# Altium integrated library TI Data Converters Digital to Analog Converter.IntLib: 1533 symbols (part 45 of 99)
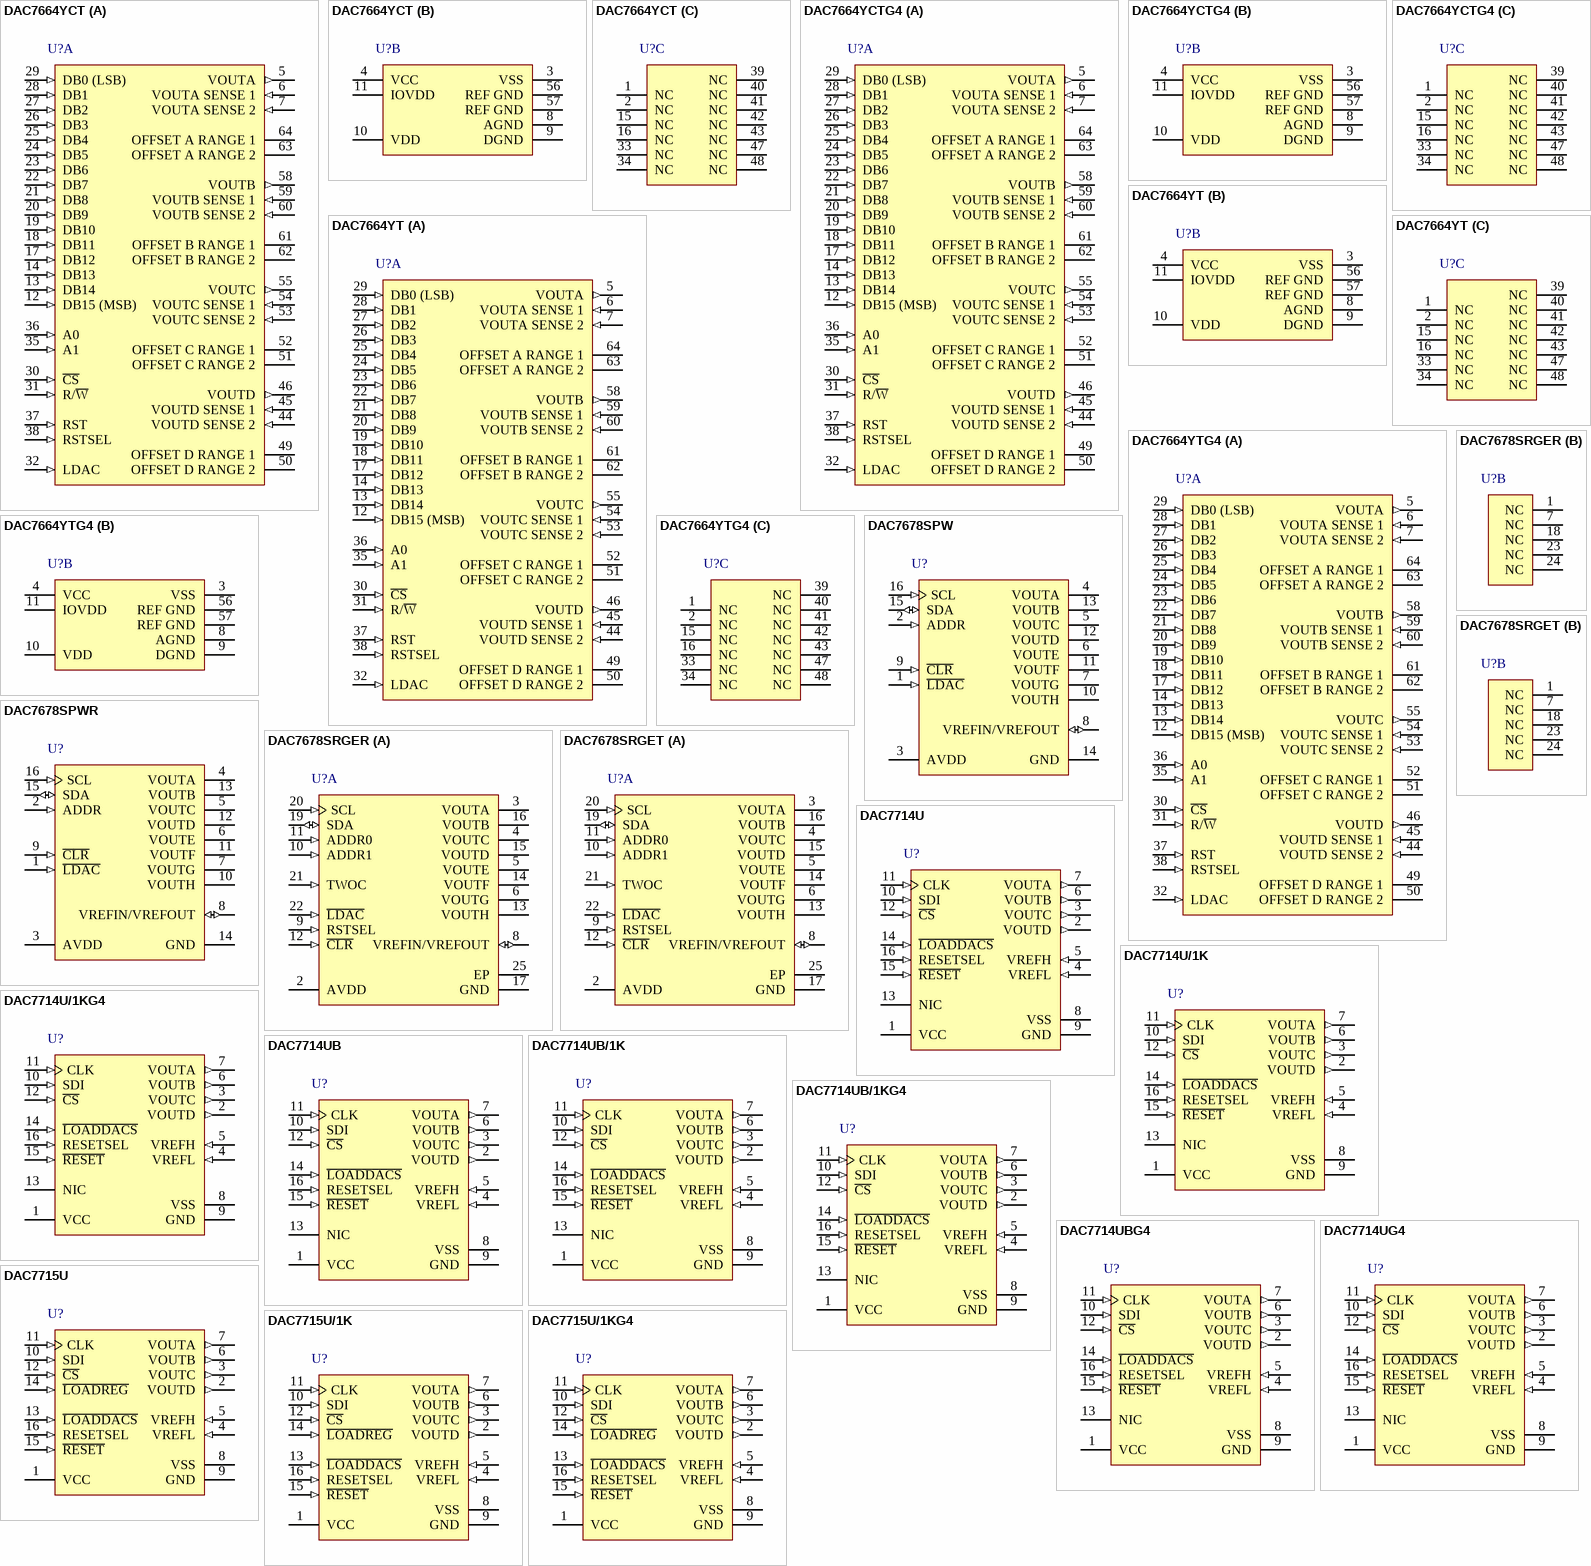
[diagram p117: symbols DAC7664YCT to DAC7715U/1KG4]

## DAC7664YCT
designator U?
Digital to Analog Converter, Quad, 16-Bit, 12 us Settling Time, +/- 1 LSB DNL, -40 to 85 degC, 64-pin QFP (PM64), Green (RoHS & no Sb/Br); Manufacturer: Texas Instruments; PartNumber: DAC7664YCT; DAC Channels: 4; DNL(Max)(+/-LSB): 3; Interface: Parallel; Power Consumption(Typ)(mW): 18; Resolution(Bits): 16; Settling Time(us): 12; SubFamily: Precision DAC (=<10MSPS); DatasheetVersion: SBAS271; PackageVersion: 4040152/C, 11/1996; PackageReference: PM64; PackageDescription: 64-Pin Plastic Quad Flatpack, Body 10 x 10 mm, Pitch 0.5 mm; Supplier 1: Digi-Key; Supplier Part Number 1: 296-16928-2-ND; Supplier 2: Digi-Key; Supplier Part Number 2: 296-16928-1-ND; Supplier 3: Digi-Key; Supplier Part Number 3: 296-16928-6-ND; Supplier 4: Newark; Supplier Part Number 4: 01J0531; Supplier 5: Mouser; Supplier Part Number 5: 595-DAC7664YCT; Eco-Plan: Green (RoHS & no Sb/Br); INL(Max)(+/-LSB): 3; Mounting Technology: Surface Mount; Code_JEDEC: MS-026; ComponentLink1Description: Manufacturer URL; ComponentLink1URL: http://www.ti.com/; ComponentLink2Description: Datasheet; ComponentLink2URL: http://www.ti.com/general/docs/lit/getliterature.tsp?genericPartNumber=DAC7664&fileType=pdf; ComponentLink3Description: Package Specification; ComponentLink3URL: http://www.ti.com/lit/ml/mtqf008a/mtqf008a.pdf
footprint TI-PM64_N (QFP, 64-Leads, Body 10x10mm, Pitch 0.5mm, IPC Medium Density)
footprint TI-PM64_L (QFP, 64-Leads, Body 10x10mm, Pitch 0.5mm, IPC High Density)
footprint TI-PM64_M (QFP, 64-Leads, Body 10x10mm, Pitch 0.5mm, IPC Low Density)
part A pins: 5 VOUTA (out) "DAC A output voltage", 6 VOUTA SENSE 1 (in) "Connect to VOUTA for unipolar mode", 7 VOUTA SENSE 2 (in) "Connect to VOUTA for bipolar mode", 12 DB15 (MSB) (in) "Data bit 15 (MSB)", 13 DB14 (in) "Data bit 14", 14 DB13 (in) "Data bit 13", 17 DB12 (in) "Data bit 12", 18 DB11 (in) "Data bit 11", 19 DB10 (in) "Data bit 10", 20 DB9 (in) "Data bit 9", 21 DB8 (in) "Data bit 8", 22 DB7 (in) "Data bit 7", 23 DB6 (in) "Data bit 6", 24 DB5 (in) "Data bit 5", 25 DB4 (in) "Data bit 4", 26 DB3 (in) "Data bit 3", 27 DB2 (in) "Data bit 2", 28 DB1 (in) "Data bit 1", 29 DB0 (LSB) (in) "Data bit 0", 30 ~{CS} (in) "Chip select, active low", 31 R/~{W} (in) "Enabled by C\S\; controls the data read and data write.", 32 LDAC (in) "DAC register load control, rising edge triggered.", 35 A1 (in) "Enabled by CS; in combination with A0, selects the individual DAC input registers.", 36 A0 (in) "Enabled by CS; in combination with A1, selects the individual DAC input registers.", 37 RST (in) "Reset, rising edge triggered. Depending on the state of RSTSEL, the DAC registers are set to either mid-scale or zero.", 38 RSTSEL (in) "Reset select. Determines the action of RST. If high, an RST command sets the DAC registers to mid-scale (8000h). If low, an RST command sets the DAC registers to zero (0000h).", 44 VOUTD SENSE 2 (in) "Connect to VOUTD for bipolar mode", 45 VOUTD SENSE 1 (in) "Connect to VOUTD for unipolar mode", 46 VOUTD (out) "DAC D output", 49 OFFSET D RANGE 1 "Connect to Offset D Range 2 for unipolar mode", 50 OFFSET D RANGE 2 "Connect to Offset D Range 1 for unipolar mode", 51 OFFSET C RANGE 2 "Connect to Offset C Range 1 for unipolar mode", 52 OFFSET C RANGE 1 "Connect to Offset C Range 2 for unipolar mode", 53 VOUTC SENSE 2 (in) "Connect to VOUTC for bipolar mode", 54 VOUTC SENSE 1 (in) "Connect to VOUTC for unipolar mode", 55 VOUTC (out) "DAC C output", 58 VOUTB (out) "DAC B output", 59 VOUTB SENSE 1 (in) "Connect to VOUTB for unipolar mode", 60 VOUTB SENSE 2 (in) "Connect to VOUTB for bipolar mode", 61 OFFSET B RANGE 1 "Connect to Offset B Range 2 for unipolar mode", 62 OFFSET B RANGE 2 "Connect to Offset B Range 1 for unipolar mode", 63 OFFSET A RANGE 2 "Connect to Offset A Range 1 for unipolar mode", 64 OFFSET A RANGE 1 "Connect to Offset A Range 2 for unipolar mode"
part B pins: 3 VSS (power) "Analog -5V power supply or 0V single supply", 4 VCC (power) "Analog +5V power supply", 8 AGND (power) "Analog ground", 9 DGND (power) "Digital ground", 10 VDD (power) "Digital +5V power supply", 11 IOVDD (power) "Interface power supply", 56 REF GND (power) "Reference ground", 57 REF GND (power) "Reference ground"
part C pins: 1 NC "No Connection", 2 NC "No Connection", 15 NC "No connection", 16 NC "No connection", 33 NC "No connection", 34 NC "No connection", 39 NC "No connection", 40 NC "No connection", 41 NC "No connection", 42 NC "No connection", 43 NC "No connection", 47 NC "No connection", 48 NC "No connection"

## DAC7664YCTG4
designator U?
Digital to Analog Converter, Quad, 16-Bit, 12 us Settling Time, +/- 1 LSB DNL, -40 to 85 degC, 64-pin QFP (PM64), Green (RoHS & no Sb/Br); Manufacturer: Texas Instruments; PartNumber: DAC7664YCTG4; DAC Channels: 4; DNL(Max)(+/-LSB): 2; INL(Max)(+/-LSB): 3; Interface: Parallel; Power Consumption(Typ)(mW): 18; Resolution(Bits): 16; Settling Time(us): 12; SubFamily: Precision DAC (=<10MSPS); DatasheetVersion: SBAS271; PackageVersion: 4040152/C, 11/1996; PackageReference: PM64; PackageDescription: 64-Pin Plastic Quad Flatpack, Body 10 x 10 mm, Pitch 0.5 mm; Supplier 1: Digi-Key; Supplier Part Number 1: DAC7664YCTG4-ND; Supplier 2: Newark; Supplier Part Number 2: 14M1946; Supplier 3: Mouser; Supplier Part Number 3: 595-DAC7664YCTG4; Eco-Plan: Green (RoHS & no Sb/Br); Mounting Technology: Surface Mount; Code_JEDEC: MS-026; ComponentLink1Description: Manufacturer URL; ComponentLink1URL: http://www.ti.com/; ComponentLink2Description: Datasheet; ComponentLink2URL: http://www.ti.com/general/docs/lit/getliterature.tsp?genericPartNumber=DAC7664&fileType=pdf; ComponentLink3Description: Package Specification; ComponentLink3URL: http://www.ti.com/lit/ml/mtqf008a/mtqf008a.pdf
footprint TI-PM64_N (QFP, 64-Leads, Body 10x10mm, Pitch 0.5mm, IPC Medium Density)
footprint TI-PM64_L (QFP, 64-Leads, Body 10x10mm, Pitch 0.5mm, IPC High Density)
footprint TI-PM64_M (QFP, 64-Leads, Body 10x10mm, Pitch 0.5mm, IPC Low Density)
part A pins: 5 VOUTA (out) "DAC A output voltage", 6 VOUTA SENSE 1 (in) "Connect to VOUTA for unipolar mode", 7 VOUTA SENSE 2 (in) "Connect to VOUTA for bipolar mode", 12 DB15 (MSB) (in) "Data bit 15 (MSB)", 13 DB14 (in) "Data bit 14", 14 DB13 (in) "Data bit 13", 17 DB12 (in) "Data bit 12", 18 DB11 (in) "Data bit 11", 19 DB10 (in) "Data bit 10", 20 DB9 (in) "Data bit 9", 21 DB8 (in) "Data bit 8", 22 DB7 (in) "Data bit 7", 23 DB6 (in) "Data bit 6", 24 DB5 (in) "Data bit 5", 25 DB4 (in) "Data bit 4", 26 DB3 (in) "Data bit 3", 27 DB2 (in) "Data bit 2", 28 DB1 (in) "Data bit 1", 29 DB0 (LSB) (in) "Data bit 0", 30 ~{CS} (in) "Chip select, active low", 31 R/~{W} (in) "Enabled by C\S\; controls the data read and data write.", 32 LDAC (in) "DAC register load control, rising edge triggered.", 35 A1 (in) "Enabled by CS; in combination with A0, selects the individual DAC input registers.", 36 A0 (in) "Enabled by CS; in combination with A1, selects the individual DAC input registers.", 37 RST (in) "Reset, rising edge triggered. Depending on the state of RSTSEL, the DAC registers are set to either mid-scale or zero.", 38 RSTSEL (in) "Reset select. Determines the action of RST. If high, an RST command sets the DAC registers to mid-scale (8000h). If low, an RST command sets the DAC registers to zero (0000h).", 44 VOUTD SENSE 2 (in) "Connect to VOUTD for bipolar mode", 45 VOUTD SENSE 1 (in) "Connect to VOUTD for unipolar mode", 46 VOUTD (out) "DAC D output", 49 OFFSET D RANGE 1 "Connect to Offset D Range 2 for unipolar mode", 50 OFFSET D RANGE 2 "Connect to Offset D Range 1 for unipolar mode", 51 OFFSET C RANGE 2 "Connect to Offset C Range 1 for unipolar mode", 52 OFFSET C RANGE 1 "Connect to Offset C Range 2 for unipolar mode", 53 VOUTC SENSE 2 (in) "Connect to VOUTC for bipolar mode", 54 VOUTC SENSE 1 (in) "Connect to VOUTC for unipolar mode", 55 VOUTC (out) "DAC C output", 58 VOUTB (out) "DAC B output", 59 VOUTB SENSE 1 (in) "Connect to VOUTB for unipolar mode", 60 VOUTB SENSE 2 (in) "Connect to VOUTB for bipolar mode", 61 OFFSET B RANGE 1 "Connect to Offset B Range 2 for unipolar mode", 62 OFFSET B RANGE 2 "Connect to Offset B Range 1 for unipolar mode", 63 OFFSET A RANGE 2 "Connect to Offset A Range 1 for unipolar mode", 64 OFFSET A RANGE 1 "Connect to Offset A Range 2 for unipolar mode"
part B pins: 3 VSS (power) "Analog -5V power supply or 0V single supply", 4 VCC (power) "Analog +5V power supply", 8 AGND (power) "Analog ground", 9 DGND (power) "Digital ground", 10 VDD (power) "Digital +5V power supply", 11 IOVDD (power) "Interface power supply", 56 REF GND (power) "Reference ground", 57 REF GND (power) "Reference ground"
part C pins: 1 NC "No Connection", 2 NC "No Connection", 15 NC "No connection", 16 NC "No connection", 33 NC "No connection", 34 NC "No connection", 39 NC "No connection", 40 NC "No connection", 41 NC "No connection", 42 NC "No connection", 43 NC "No connection", 47 NC "No connection", 48 NC "No connection"

## DAC7664YT
designator U?
Digital to Analog Converter, Quad, 16-Bit, 12 us Settling Time, +/- 1 LSB DNL, -40 to 85 degC, 64-pin QFP (PM64), Green (RoHS & no Sb/Br); Manufacturer: Texas Instruments; PartNumber: DAC7664YT; DAC Channels: 4; DNL(Max)(+/-LSB): 3; Interface: Parallel; Power Consumption(Typ)(mW): 18; Resolution(Bits): 16; Settling Time(us): 12; SubFamily: Precision DAC (=<10MSPS); DatasheetVersion: SBAS271; PackageVersion: 4040152/C, 11/1996; PackageReference: PM64; PackageDescription: 64-Pin Plastic Quad Flatpack, Body 10 x 10 mm, Pitch 0.5 mm; Supplier 1: Digi-Key; Supplier Part Number 1: DAC7664YT-ND; Supplier 2: Mouser; Supplier Part Number 2: 595-DAC7664YT; Eco-Plan: Green (RoHS & no Sb/Br); INL(Max)(+/-LSB): 4; Mounting Technology: Surface Mount; Code_JEDEC: MS-026; ComponentLink1Description: Manufacturer URL; ComponentLink1URL: http://www.ti.com/; ComponentLink2Description: Datasheet; ComponentLink2URL: http://www.ti.com/general/docs/lit/getliterature.tsp?genericPartNumber=DAC7664&fileType=pdf; ComponentLink3Description: Package Specification; ComponentLink3URL: http://www.ti.com/lit/ml/mtqf008a/mtqf008a.pdf
footprint TI-PM64_N (QFP, 64-Leads, Body 10x10mm, Pitch 0.5mm, IPC Medium Density)
footprint TI-PM64_L (QFP, 64-Leads, Body 10x10mm, Pitch 0.5mm, IPC High Density)
footprint TI-PM64_M (QFP, 64-Leads, Body 10x10mm, Pitch 0.5mm, IPC Low Density)
part A pins: 5 VOUTA (out) "DAC A output voltage", 6 VOUTA SENSE 1 (in) "Connect to VOUTA for unipolar mode", 7 VOUTA SENSE 2 (in) "Connect to VOUTA for bipolar mode", 12 DB15 (MSB) (in) "Data bit 15 (MSB)", 13 DB14 (in) "Data bit 14", 14 DB13 (in) "Data bit 13", 17 DB12 (in) "Data bit 12", 18 DB11 (in) "Data bit 11", 19 DB10 (in) "Data bit 10", 20 DB9 (in) "Data bit 9", 21 DB8 (in) "Data bit 8", 22 DB7 (in) "Data bit 7", 23 DB6 (in) "Data bit 6", 24 DB5 (in) "Data bit 5", 25 DB4 (in) "Data bit 4", 26 DB3 (in) "Data bit 3", 27 DB2 (in) "Data bit 2", 28 DB1 (in) "Data bit 1", 29 DB0 (LSB) (in) "Data bit 0", 30 ~{CS} (in) "Chip select, active low", 31 R/~{W} (in) "Enabled by C\S\; controls the data read and data write.", 32 LDAC (in) "DAC register load control, rising edge triggered.", 35 A1 (in) "Enabled by CS; in combination with A0, selects the individual DAC input registers.", 36 A0 (in) "Enabled by CS; in combination with A1, selects the individual DAC input registers.", 37 RST (in) "Reset, rising edge triggered. Depending on the state of RSTSEL, the DAC registers are set to either mid-scale or zero.", 38 RSTSEL (in) "Reset select. Determines the action of RST. If high, an RST command sets the DAC registers to mid-scale (8000h). If low, an RST command sets the DAC registers to zero (0000h).", 44 VOUTD SENSE 2 (in) "Connect to VOUTD for bipolar mode", 45 VOUTD SENSE 1 (in) "Connect to VOUTD for unipolar mode", 46 VOUTD (out) "DAC D output", 49 OFFSET D RANGE 1 "Connect to Offset D Range 2 for unipolar mode", 50 OFFSET D RANGE 2 "Connect to Offset D Range 1 for unipolar mode", 51 OFFSET C RANGE 2 "Connect to Offset C Range 1 for unipolar mode", 52 OFFSET C RANGE 1 "Connect to Offset C Range 2 for unipolar mode", 53 VOUTC SENSE 2 (in) "Connect to VOUTC for bipolar mode", 54 VOUTC SENSE 1 (in) "Connect to VOUTC for unipolar mode", 55 VOUTC (out) "DAC C output", 58 VOUTB (out) "DAC B output", 59 VOUTB SENSE 1 (in) "Connect to VOUTB for unipolar mode", 60 VOUTB SENSE 2 (in) "Connect to VOUTB for bipolar mode", 61 OFFSET B RANGE 1 "Connect to Offset B Range 2 for unipolar mode", 62 OFFSET B RANGE 2 "Connect to Offset B Range 1 for unipolar mode", 63 OFFSET A RANGE 2 "Connect to Offset A Range 1 for unipolar mode", 64 OFFSET A RANGE 1 "Connect to Offset A Range 2 for unipolar mode"
part B pins: 3 VSS (power) "Analog -5V power supply or 0V single supply", 4 VCC (power) "Analog +5V power supply", 8 AGND (power) "Analog ground", 9 DGND (power) "Digital ground", 10 VDD (power) "Digital +5V power supply", 11 IOVDD (power) "Interface power supply", 56 REF GND (power) "Reference ground", 57 REF GND (power) "Reference ground"
part C pins: 1 NC "No Connection", 2 NC "No Connection", 15 NC "No connection", 16 NC "No connection", 33 NC "No connection", 34 NC "No connection", 39 NC "No connection", 40 NC "No connection", 41 NC "No connection", 42 NC "No connection", 43 NC "No connection", 47 NC "No connection", 48 NC "No connection"

## DAC7664YTG4
designator U?
Digital to Analog Converter, Quad, 16-Bit, 12 us Settling Time, +/- 1 LSB DNL, -40 to 85 degC, 64-pin QFP (PM64), Green (RoHS & no Sb/Br); Manufacturer: Texas Instruments; PartNumber: DAC7664YTG4; DAC Channels: 4; DNL(Max)(+/-LSB): 3; Interface: Parallel; Power Consumption(Typ)(mW): 18; Resolution(Bits): 16; Settling Time(us): 12; SubFamily: Precision DAC (=<10MSPS); DatasheetVersion: SBAS271; PackageVersion: 4040152/C, 11/1996; PackageReference: PM64; PackageDescription: 64-Pin Plastic Quad Flatpack, Body 10 x 10 mm, Pitch 0.5 mm; Supplier 1: Digi-Key; Supplier Part Number 1: DAC7664YTG4-ND; Supplier 2: Mouser; Supplier Part Number 2: 595-DAC7664YTG4; Eco-Plan: Green (RoHS & no Sb/Br); INL(Max)(+/-LSB): 4; Mounting Technology: Surface Mount; Code_JEDEC: MS-026; ComponentLink1Description: Manufacturer URL; ComponentLink1URL: http://www.ti.com/; ComponentLink2Description: Datasheet; ComponentLink2URL: http://www.ti.com/general/docs/lit/getliterature.tsp?genericPartNumber=DAC7664&fileType=pdf; ComponentLink3Description: Package Specification; ComponentLink3URL: http://www.ti.com/lit/ml/mtqf008a/mtqf008a.pdf
footprint TI-PM64_N (QFP, 64-Leads, Body 10x10mm, Pitch 0.5mm, IPC Medium Density)
footprint TI-PM64_L (QFP, 64-Leads, Body 10x10mm, Pitch 0.5mm, IPC High Density)
footprint TI-PM64_M (QFP, 64-Leads, Body 10x10mm, Pitch 0.5mm, IPC Low Density)
part A pins: 5 VOUTA (out) "DAC A output voltage", 6 VOUTA SENSE 1 (in) "Connect to VOUTA for unipolar mode", 7 VOUTA SENSE 2 (in) "Connect to VOUTA for bipolar mode", 12 DB15 (MSB) (in) "Data bit 15 (MSB)", 13 DB14 (in) "Data bit 14", 14 DB13 (in) "Data bit 13", 17 DB12 (in) "Data bit 12", 18 DB11 (in) "Data bit 11", 19 DB10 (in) "Data bit 10", 20 DB9 (in) "Data bit 9", 21 DB8 (in) "Data bit 8", 22 DB7 (in) "Data bit 7", 23 DB6 (in) "Data bit 6", 24 DB5 (in) "Data bit 5", 25 DB4 (in) "Data bit 4", 26 DB3 (in) "Data bit 3", 27 DB2 (in) "Data bit 2", 28 DB1 (in) "Data bit 1", 29 DB0 (LSB) (in) "Data bit 0", 30 ~{CS} (in) "Chip select, active low", 31 R/~{W} (in) "Enabled by C\S\; controls the data read and data write.", 32 LDAC (in) "DAC register load control, rising edge triggered.", 35 A1 (in) "Enabled by CS; in combination with A0, selects the individual DAC input registers.", 36 A0 (in) "Enabled by CS; in combination with A1, selects the individual DAC input registers.", 37 RST (in) "Reset, rising edge triggered. Depending on the state of RSTSEL, the DAC registers are set to either mid-scale or zero.", 38 RSTSEL (in) "Reset select. Determines the action of RST. If high, an RST command sets the DAC registers to mid-scale (8000h). If low, an RST command sets the DAC registers to zero (0000h).", 44 VOUTD SENSE 2 (in) "Connect to VOUTD for bipolar mode", 45 VOUTD SENSE 1 (in) "Connect to VOUTD for unipolar mode", 46 VOUTD (out) "DAC D output", 49 OFFSET D RANGE 1 "Connect to Offset D Range 2 for unipolar mode", 50 OFFSET D RANGE 2 "Connect to Offset D Range 1 for unipolar mode", 51 OFFSET C RANGE 2 "Connect to Offset C Range 1 for unipolar mode", 52 OFFSET C RANGE 1 "Connect to Offset C Range 2 for unipolar mode", 53 VOUTC SENSE 2 (in) "Connect to VOUTC for bipolar mode", 54 VOUTC SENSE 1 (in) "Connect to VOUTC for unipolar mode", 55 VOUTC (out) "DAC C output", 58 VOUTB (out) "DAC B output", 59 VOUTB SENSE 1 (in) "Connect to VOUTB for unipolar mode", 60 VOUTB SENSE 2 (in) "Connect to VOUTB for bipolar mode", 61 OFFSET B RANGE 1 "Connect to Offset B Range 2 for unipolar mode", 62 OFFSET B RANGE 2 "Connect to Offset B Range 1 for unipolar mode", 63 OFFSET A RANGE 2 "Connect to Offset A Range 1 for unipolar mode", 64 OFFSET A RANGE 1 "Connect to Offset A Range 2 for unipolar mode"
part B pins: 3 VSS (power) "Analog -5V power supply or 0V single supply", 4 VCC (power) "Analog +5V power supply", 8 AGND (power) "Analog ground", 9 DGND (power) "Digital ground", 10 VDD (power) "Digital +5V power supply", 11 IOVDD (power) "Interface power supply", 56 REF GND (power) "Reference ground", 57 REF GND (power) "Reference ground"
part C pins: 1 NC "No Connection", 2 NC "No Connection", 15 NC "No connection", 16 NC "No connection", 33 NC "No connection", 34 NC "No connection", 39 NC "No connection", 40 NC "No connection", 41 NC "No connection", 42 NC "No connection", 43 NC "No connection", 47 NC "No connection", 48 NC "No connection"

## DAC7678SPW
designator U?
12-Bit, Octal Channel, Ultra-Low Glitch, Voltage Output, 2-Wire Interface DAC with 2.5 V Internal Reference, -40 to 125 degC, 16-pin SOP (PW16), Green (RoHS & no Sb/Br); Manufacturer: Texas Instruments; PartNumber: DAC7678SPW; DAC Channels: 8; DNL(Max)(+/-LSB): 0.25; INL(Max)(+/-LSB): 1; Interface: Serial I2C; Power Consumption(Typ)(mW): 3.67; Resolution(Bits): 12; Settling Time(us): 7; SubFamily: Precision DAC (=<10MSPS); DatasheetVersion: SBAS493B; PackageVersion: 4040064-4/G, 02/2011; PackageReference: PW16; PackageDescription: 16-Pin Plastic Small Outline, Body 5 x 4.4 mm, Pitch 0.65 mm; Supplier 1: Digi-Key; Supplier Part Number 1: 296-27742-5-ND; Supplier 2: Farnell; Supplier Part Number 2: 1855109; Supplier 3: Newark; Supplier Part Number 3: 23T0809; Supplier 4: Newark; Supplier Part Number 4: 01T0036; Supplier 5: Mouser; Supplier Part Number 5: 595-DAC7678SPW; Eco-Plan: Green (RoHS & no Sb/Br); Mounting Technology: Surface Mount; Code_JEDEC: MO-153; ComponentLink1Description: Manufacturer URL; ComponentLink1URL: http://www.ti.com/; ComponentLink2Description: Datasheet; ComponentLink2URL: http://www.ti.com/general/docs/lit/getliterature.tsp?genericPartNumber=DAC7678&fileType=pdf; ComponentLink3Description: Package Specification; ComponentLink3URL: http://www.ti.com/lit/ml/mpds361/mpds361.pdf
footprint TI-PW16_N (SOP, 16-Leads, Body 5x4.4mm, Pitch 0.65mm, IPC Medium Density)
footprint TI-PW16_L (SOP, 16-Leads, Body 5x4.4mm, Pitch 0.65mm, IPC High Density)
footprint TI-PW16_M (SOP, 16-Leads, Body 5x4.4mm, Pitch 0.65mm, IPC Low Density)
pins: 1 ~{LDAC} (in) "Load DACs.", 2 ADDR (in) "Three-state address input 0", 3 AVDD (power) "Power-supply input, 2.7V to 5.5V", 4 VOUTA (hiz) "Analog output voltage from DAC A", 5 VOUTC (hiz) "Analog output voltage from DAC C", 6 VOUTE (hiz) "Analog output voltage from DAC E", 7 VOUTG (hiz) "Analog output voltage from DAC G", 8 VREFIN/VREFOUT (io) "Positive reference input or reference output of 2.5V, if internal reference use", 9 ~{CLR} (in) "Asynchronous clear input", 10 VOUTH (hiz) "Analog output voltage from DAC H", 11 VOUTF (hiz) "Analog output voltage from DAC F", 12 VOUTD (hiz) "Analog output voltage from DAC D", 13 VOUTB (hiz) "Analog output voltage from DAC B", 14 GND (power) "Ground reference point for all circuitry on the device", 15 SDA (io) "Serial data input. Data are clocked into or out of the input register. This pin is a bidirectional, open- drain data line that should be connected to the supply voltage with an external pull-up resistor.", 16 SCL (in) "Serial clock input. Data can be transferred at rates up to 3.4MHz. Schmitt-trigger logic input."

## DAC7678SPWR
designator U?
12-Bit, Octal Channel, Ultra-Low Glitch, Voltage Output, 2-Wire Interface DAC with 2.5 V Internal Reference, -40 to 125 degC, 16-pin SOP (PW16), Green (RoHS & no Sb/Br); Manufacturer: Texas Instruments; PartNumber: DAC7678SPWR; DAC Channels: 8; DNL(Max)(+/-LSB): 0.25; INL(Max)(+/-LSB): 1; Interface: Serial I2C; Power Consumption(Typ)(mW): 3.67; Resolution(Bits): 12; Settling Time(us): 7; SubFamily: Precision DAC (=<10MSPS); DatasheetVersion: SBAS493B; PackageVersion: 4040064-4/G, 02/2011; PackageReference: PW16; PackageDescription: 16-Pin Plastic Small Outline, Body 5 x 4.4 mm, Pitch 0.65 mm; Supplier 1: Digi-Key; Supplier Part Number 1: DAC7678SPWR-ND; Supplier 2: Farnell; Supplier Part Number 2: 1854521; Supplier 3: Newark; Supplier Part Number 3: 01T0037; Supplier 4: Mouser; Supplier Part Number 4: 595-DAC7678SPWR; Eco-Plan: Green (RoHS & no Sb/Br); Mounting Technology: Surface Mount; Code_JEDEC: MO-153; ComponentLink1Description: Manufacturer URL; ComponentLink1URL: http://www.ti.com/; ComponentLink2Description: Datasheet; ComponentLink2URL: http://www.ti.com/general/docs/lit/getliterature.tsp?genericPartNumber=DAC7678&fileType=pdf; ComponentLink3Description: Package Specification; ComponentLink3URL: http://www.ti.com/lit/ml/mpds361/mpds361.pdf
footprint TI-PW16_N (SOP, 16-Leads, Body 5x4.4mm, Pitch 0.65mm, IPC Medium Density)
footprint TI-PW16_L (SOP, 16-Leads, Body 5x4.4mm, Pitch 0.65mm, IPC High Density)
footprint TI-PW16_M (SOP, 16-Leads, Body 5x4.4mm, Pitch 0.65mm, IPC Low Density)
pins: 1 ~{LDAC} (in) "Load DACs.", 2 ADDR (in) "Three-state address input 0", 3 AVDD (power) "Power-supply input, 2.7V to 5.5V", 4 VOUTA (hiz) "Analog output voltage from DAC A", 5 VOUTC (hiz) "Analog output voltage from DAC C", 6 VOUTE (hiz) "Analog output voltage from DAC E", 7 VOUTG (hiz) "Analog output voltage from DAC G", 8 VREFIN/VREFOUT (io) "Positive reference input or reference output of 2.5V, if internal reference use", 9 ~{CLR} (in) "Asynchronous clear input", 10 VOUTH (hiz) "Analog output voltage from DAC H", 11 VOUTF (hiz) "Analog output voltage from DAC F", 12 VOUTD (hiz) "Analog output voltage from DAC D", 13 VOUTB (hiz) "Analog output voltage from DAC B", 14 GND (power) "Ground reference point for all circuitry on the device", 15 SDA (io) "Serial data input. Data are clocked into or out of the input register. This pin is a bidirectional, open- drain data line that should be connected to the supply voltage with an external pull-up resistor.", 16 SCL (in) "Serial clock input. Data can be transferred at rates up to 3.4MHz. Schmitt-trigger logic input."

## DAC7678SRGER
designator U?
12-Bit, Octal Channel, Ultra-Low Glitch, Voltage Output, 2-Wire Interface DAC with 2.5 V Internal Reference, -40 to 125 degC, 24-pin QFN (RGE24), Green (RoHS & no Sb/Br); Manufacturer: Texas Instruments; PartNumber: DAC7678SRGER; DAC Channels: 8; DNL(Max)(+/-LSB): 0.25; INL(Max)(+/-LSB): 1; Interface: Serial I2C; Power Consumption(Typ)(mW): 3.67; Resolution(Bits): 12; Settling Time(us): 7; SubFamily: Precision DAC (=<10MSPS); DatasheetVersion: SBAS493B; PackageVersion: 4204104/G, 07/2011; PackageReference: RGE24-2700X2700TP; PackageDescription: 24-Pin Plastic Flat Pack, Body 4 x 4 mm, Pitch 0.5 mm; Supplier 1: Digi-Key; Supplier Part Number 1: DAC7678SRGER-ND; Supplier 2: Mouser; Supplier Part Number 2: 595-DAC7678SRGER; Eco-Plan: Green (RoHS & no Sb/Br); Mounting Technology: Surface Mount; Code_JEDEC: MO-220; ComponentLink1Description: Manufacturer URL; ComponentLink1URL: http://www.ti.com/; ComponentLink2Description: Datasheet; ComponentLink2URL: http://www.ti.com/general/docs/lit/getliterature.tsp?genericPartNumber=DAC7678&fileType=pdf; ComponentLink3Description: Package Specification; ComponentLink3URL: http://www.ti.com/litv/pdf/mpqf124f
footprint TI-RGE24-2700X2700TP_V (QFN, 24-Leads, Body 4x4mm, Pitch 0.5mm, Thermal Pad 2.7x2.7mm)
part A pins: 2 AVDD (power) "Power-supply input, 2.7V to 5.5V", 3 VOUTA (hiz) "Analog output voltage from DAC A", 4 VOUTC (hiz) "Analog output voltage from DAC C", 5 VOUTE (hiz) "Analog output voltage from DAC E", 6 VOUTG (hiz) "Analog output voltage from DAC G", 8 VREFIN/VREFOUT (io) "Positive reference input or reference output of 2.5V, if internal reference used.", 9 RSTSEL (in) "Reset select pin. RSTSEL high resets device to mid-scale; RSTSEL low resets device to zero-scale.", 10 ADDR1 (in) "Three-state address input 1", 11 ADDR0 (in) "Three-state address input 0", 12 ~{CLR} (in) "Asynchronous clear input", 13 VOUTH (hiz) "Analog output voltage from DAC H", 14 VOUTF (hiz) "Analog output voltage from DAC F", 15 VOUTD (hiz) "Analog output voltage from DAC D", 16 VOUTB (hiz) "Analog output voltage from DAC B", 17 GND (power) "Ground reference point for all circuitry on the device", 19 SDA (io) "Serial data input. Data are clocked into or out of the input register. This pin is a bidirectional, open-drain data line that should be connected to the supply voltage with an external pull-up resistor.", 20 SCL (in) "Serial clock input. Data can be transferred at rates up to 3.4MHz. Schmitt-trigger logic input.", 21 TWOC (in) "Twos complement select. If the TWOC pin is pulled high, the DAC registers use twos complement format; if TWOC is pulled low, the DAC registers use straight binary format.", 22 ~{LDAC} (in) "Load DACs.", 25 EP (power) "It is recommended to connect the thermal pad to GND for better thermal dissipation."
part B pins: 1 NC "Not internally connected.", 7 NC "Not internally connected.", 18 NC "Not internally connected.", 23 NC "Not internally connected.", 24 NC "Not internally connected."

## DAC7678SRGET
designator U?
12-Bit, Octal Channel, Ultra-Low Glitch, Voltage Output, 2-Wire Interface DAC with 2.5 V Internal Reference, -40 to 125 degC, 24-pin QFN (RGE24), Green (RoHS & no Sb/Br); Manufacturer: Texas Instruments; PartNumber: DAC7678SRGET; DAC Channels: 8; DNL(Max)(+/-LSB): 0.25; INL(Max)(+/-LSB): 1; Interface: Serial I2C; Power Consumption(Typ)(mW): 3.67; Resolution(Bits): 12; Settling Time(us): 7; SubFamily: Precision DAC (=<10MSPS); DatasheetVersion: SBAS493B; PackageVersion: 4204104/G, 07/2011; PackageReference: RGE24-2700X2700TP; PackageDescription: 24-Pin Plastic Flat Pack, Body 4 x 4 mm, Pitch 0.5 mm; Supplier 1: Digi-Key; Supplier Part Number 1: 296-27743-2-ND; Supplier 2: Digi-Key; Supplier Part Number 2: 296-27743-1-ND; Supplier 3: Digi-Key; Supplier Part Number 3: 296-27743-6-ND; Supplier 4: Farnell; Supplier Part Number 4: 1862573; Supplier 5: Newark; Supplier Part Number 5: 91R0761; Supplier 6: Mouser; Supplier Part Number 6: 595-DAC7678SRGET; Eco-Plan: Green (RoHS & no Sb/Br); Mounting Technology: Surface Mount; Code_JEDEC: MO-220; ComponentLink1Description: Manufacturer URL; ComponentLink1URL: http://www.ti.com/; ComponentLink2Description: Datasheet; ComponentLink2URL: http://www.ti.com/general/docs/lit/getliterature.tsp?genericPartNumber=DAC7678&fileType=pdf; ComponentLink3Description: Package Specification; ComponentLink3URL: http://www.ti.com/litv/pdf/mpqf124f
footprint TI-RGE24-2700X2700TP_V (QFN, 24-Leads, Body 4x4mm, Pitch 0.5mm, Thermal Pad 2.7x2.7mm)
part A pins: 2 AVDD (power) "Power-supply input, 2.7V to 5.5V", 3 VOUTA (hiz) "Analog output voltage from DAC A", 4 VOUTC (hiz) "Analog output voltage from DAC C", 5 VOUTE (hiz) "Analog output voltage from DAC E", 6 VOUTG (hiz) "Analog output voltage from DAC G", 8 VREFIN/VREFOUT (io) "Positive reference input or reference output of 2.5V, if internal reference used.", 9 RSTSEL (in) "Reset select pin. RSTSEL high resets device to mid-scale; RSTSEL low resets device to zero-scale.", 10 ADDR1 (in) "Three-state address input 1", 11 ADDR0 (in) "Three-state address input 0", 12 ~{CLR} (in) "Asynchronous clear input", 13 VOUTH (hiz) "Analog output voltage from DAC H", 14 VOUTF (hiz) "Analog output voltage from DAC F", 15 VOUTD (hiz) "Analog output voltage from DAC D", 16 VOUTB (hiz) "Analog output voltage from DAC B", 17 GND (power) "Ground reference point for all circuitry on the device", 19 SDA (io) "Serial data input. Data are clocked into or out of the input register. This pin is a bidirectional, open-drain data line that should be connected to the supply voltage with an external pull-up resistor.", 20 SCL (in) "Serial clock input. Data can be transferred at rates up to 3.4MHz. Schmitt-trigger logic input.", 21 TWOC (in) "Twos complement select. If the TWOC pin is pulled high, the DAC registers use twos complement format; if TWOC is pulled low, the DAC registers use straight binary format.", 22 ~{LDAC} (in) "Load DACs.", 25 EP (power) "It is recommended to connect the thermal pad to GND for better thermal dissipation."
part B pins: 1 NC "Not internally connected.", 7 NC "Not internally connected.", 18 NC "Not internally connected.", 23 NC "Not internally connected.", 24 NC "Not internally connected."

## DAC7714U
designator U?
Quad, Serial Input, 12-Bit, Voltage Output DAC, -40 to 85 degC, 16-pin SOIC (DW16), Green (RoHS & no Sb/Br); Manufacturer: Texas Instruments; PartNumber: DAC7714U; DAC Channels: 4; DNL(Max)(+/-LSB): 1; INL(Max)(+/-LSB): 2; Interface: Serial SPI; Power Consumption(Typ)(mW): 45; Resolution(Bits): 12; Settling Time(us): 8; SubFamily: Precision DAC (=<10MSPS); DatasheetVersion: SBAS119; PackageVersion: 4040000-2/G, 01/2011; PackageReference: DW16; PackageDescription: 16-Pin Plastic Small Outline, Body 10.30 x 7.50 mm, Pitch 1.27 mm; Supplier 1: Digi-Key; Supplier Part Number 1: DAC7714U-ND; Supplier 2: Farnell; Supplier Part Number 2: 4808769; Supplier 3: Newark; Supplier Part Number 3: 35C1647; Supplier 4: Mouser; Supplier Part Number 4: 595-DAC7714U; Eco-Plan: Green (RoHS & no Sb/Br); Mounting Technology: Surface Mount; Code_JEDEC: MS-013; ComponentLink1Description: Manufacturer URL; ComponentLink1URL: http://www.ti.com/; ComponentLink2Description: Datasheet; ComponentLink2URL: http://www.ti.com/general/docs/lit/getliterature.tsp?genericPartNumber=DAC7714&fileType=pdf; ComponentLink3Description: Package Specification; ComponentLink3URL: http://www.ti.com/litv/pdf/msoi003g
footprint TI-DW16_N (SOIC, 16-Leads, Body 10.3x7.5mm, Pitch 1.27mm, IPC Medium Density)
footprint TI-DW16_L (SOIC, 16-Leads, Body 10.3x7.5mm, Pitch 1.27mm, IPC High Density)
footprint TI-DW16_M (SOIC, 16-Leads, Body 10.3x7.5mm, Pitch 1.27mm, IPC Low Density)
pins: 1 VCC (power) "Positive Analog Supply Voltage, +15V nominal.", 2 VOUTD (out) "DAC D Voltage Output", 3 VOUTC (out) "DAC C Voltage Output", 4 VREFL (in) "Reference Input Voltage Low. Sets minimum output voltage for all DACs.", 5 VREFH (in) "Reference Input Voltage High. Sets maximum output voltage for all DACs.", 6 VOUTB (out) "DAC B Voltage Output", 7 VOUTA (out) "DAC A Voltage Output", 8 VSS (power) "Negative Analog Supply Voltage, 0V or -15V nominal.", 9 GND (power) "Ground", 10 SDI (in) "Serial Data Input", 11 CLK (in) "Serial Data Clock", 12 ~{CS} (in) "Chip Select Input", 13 NIC "Not Internally Connected", 14 ~{LOADDACS} (in) "The selected DAC register becomes transparent when L\O\A\D\D\A\C\S\ is LOW. It is in the latched state when L\O\A\D\D\A\C\S\ is HIGH.", 15 ~{RESET} (in) "Asynchronous Reset Input. Sets DAC and input registers to either zero-scale (000H) or mid-scale (800H) when LOW. RESETSEL determines which code is active.", 16 RESETSEL (in) "When LOW, a LOW on R\E\S\E\T\ will cause the DAC and input registers to be set to code 000H. When RESETSEL is HIGH, a LOW on R\E\S\E\T\ will set the registers to code 800H."

## DAC7714U/1K
designator U?
Quad, Serial Input, 12-Bit, Voltage Output DAC, -40 to 85 degC, 16-pin SOIC (DW16), Green (RoHS & no Sb/Br); Manufacturer: Texas Instruments; PartNumber: DAC7714U/1K; DAC Channels: 4; DNL(Max)(+/-LSB): 1; INL(Max)(+/-LSB): 2; Interface: Serial SPI; Power Consumption(Typ)(mW): 45; Resolution(Bits): 12; Settling Time(us): 8; SubFamily: Precision DAC (=<10MSPS); DatasheetVersion: SBAS119; PackageVersion: 4040000-2/G, 01/2011; PackageReference: DW16; PackageDescription: 16-Pin Plastic Small Outline, Body 10.30 x 7.50 mm, Pitch 1.27 mm; Supplier 1: Digi-Key; Supplier Part Number 1: DAC7714U/1K-ND; Supplier 2: Mouser; Supplier Part Number 2: 595-DAC7714U/1K; Eco-Plan: Green (RoHS & no Sb/Br); Mounting Technology: Surface Mount; Code_JEDEC: MS-013; ComponentLink1Description: Manufacturer URL; ComponentLink1URL: http://www.ti.com/; ComponentLink2Description: Datasheet; ComponentLink2URL: http://www.ti.com/general/docs/lit/getliterature.tsp?genericPartNumber=DAC7714&fileType=pdf; ComponentLink3Description: Package Specification; ComponentLink3URL: http://www.ti.com/litv/pdf/msoi003g
footprint TI-DW16_N (SOIC, 16-Leads, Body 10.3x7.5mm, Pitch 1.27mm, IPC Medium Density)
footprint TI-DW16_L (SOIC, 16-Leads, Body 10.3x7.5mm, Pitch 1.27mm, IPC High Density)
footprint TI-DW16_M (SOIC, 16-Leads, Body 10.3x7.5mm, Pitch 1.27mm, IPC Low Density)
pins: 1 VCC (power) "Positive Analog Supply Voltage, +15V nominal.", 2 VOUTD (out) "DAC D Voltage Output", 3 VOUTC (out) "DAC C Voltage Output", 4 VREFL (in) "Reference Input Voltage Low. Sets minimum output voltage for all DACs.", 5 VREFH (in) "Reference Input Voltage High. Sets maximum output voltage for all DACs.", 6 VOUTB (out) "DAC B Voltage Output", 7 VOUTA (out) "DAC A Voltage Output", 8 VSS (power) "Negative Analog Supply Voltage, 0V or -15V nominal.", 9 GND (power) "Ground", 10 SDI (in) "Serial Data Input", 11 CLK (in) "Serial Data Clock", 12 ~{CS} (in) "Chip Select Input", 13 NIC "Not Internally Connected", 14 ~{LOADDACS} (in) "The selected DAC register becomes transparent when L\O\A\D\D\A\C\S\ is LOW. It is in the latched state when L\O\A\D\D\A\C\S\ is HIGH.", 15 ~{RESET} (in) "Asynchronous Reset Input. Sets DAC and input registers to either zero-scale (000H) or mid-scale (800H) when LOW. RESETSEL determines which code is active.", 16 RESETSEL (in) "When LOW, a LOW on R\E\S\E\T\ will cause the DAC and input registers to be set to code 000H. When RESETSEL is HIGH, a LOW on R\E\S\E\T\ will set the registers to code 800H."

## DAC7714U/1KG4
designator U?
Quad, Serial Input, 12-Bit, Voltage Output DAC, -40 to 85 degC, 16-pin SOIC (DW16), Green (RoHS & no Sb/Br); Manufacturer: Texas Instruments; PartNumber: DAC7714U/1KG4; DAC Channels: 4; DNL(Max)(+/-LSB): 1; INL(Max)(+/-LSB): 2; Interface: Serial SPI; Power Consumption(Typ)(mW): 45; Resolution(Bits): 12; Settling Time(us): 8; SubFamily: Precision DAC (=<10MSPS); DatasheetVersion: SBAS119; PackageVersion: 4040000-2/G, 01/2011; PackageReference: DW16; PackageDescription: 16-Pin Plastic Small Outline, Body 10.30 x 7.50 mm, Pitch 1.27 mm; Supplier 1: Digi-Key; Supplier Part Number 1: DAC7714U/1KG4-ND; Supplier 2: Mouser; Supplier Part Number 2: 595-DAC7714U/1KG4; Eco-Plan: Green (RoHS & no Sb/Br); Mounting Technology: Surface Mount; Code_JEDEC: MS-013; ComponentLink1Description: Manufacturer URL; ComponentLink1URL: http://www.ti.com/; ComponentLink2Description: Datasheet; ComponentLink2URL: http://www.ti.com/general/docs/lit/getliterature.tsp?genericPartNumber=DAC7714&fileType=pdf; ComponentLink3Description: Package Specification; ComponentLink3URL: http://www.ti.com/litv/pdf/msoi003g
footprint TI-DW16_N (SOIC, 16-Leads, Body 10.3x7.5mm, Pitch 1.27mm, IPC Medium Density)
footprint TI-DW16_L (SOIC, 16-Leads, Body 10.3x7.5mm, Pitch 1.27mm, IPC High Density)
footprint TI-DW16_M (SOIC, 16-Leads, Body 10.3x7.5mm, Pitch 1.27mm, IPC Low Density)
pins: 1 VCC (power) "Positive Analog Supply Voltage, +15V nominal.", 2 VOUTD (out) "DAC D Voltage Output", 3 VOUTC (out) "DAC C Voltage Output", 4 VREFL (in) "Reference Input Voltage Low. Sets minimum output voltage for all DACs.", 5 VREFH (in) "Reference Input Voltage High. Sets maximum output voltage for all DACs.", 6 VOUTB (out) "DAC B Voltage Output", 7 VOUTA (out) "DAC A Voltage Output", 8 VSS (power) "Negative Analog Supply Voltage, 0V or -15V nominal.", 9 GND (power) "Ground", 10 SDI (in) "Serial Data Input", 11 CLK (in) "Serial Data Clock", 12 ~{CS} (in) "Chip Select Input", 13 NIC "Not Internally Connected", 14 ~{LOADDACS} (in) "The selected DAC register becomes transparent when L\O\A\D\D\A\C\S\ is LOW. It is in the latched state when L\O\A\D\D\A\C\S\ is HIGH.", 15 ~{RESET} (in) "Asynchronous Reset Input. Sets DAC and input registers to either zero-scale (000H) or mid-scale (800H) when LOW. RESETSEL determines which code is active.", 16 RESETSEL (in) "When LOW, a LOW on R\E\S\E\T\ will cause the DAC and input registers to be set to code 000H. When RESETSEL is HIGH, a LOW on R\E\S\E\T\ will set the registers to code 800H."

## DAC7714UB
designator U?
Quad, Serial Input, 12-Bit, Voltage Output DAC, -40 to 85 degC, 16-pin SOIC (DW16), Green (RoHS & no Sb/Br); Manufacturer: Texas Instruments; PartNumber: DAC7714UB; DAC Channels: 4; DNL(Max)(+/-LSB): 1; Interface: Serial SPI; Power Consumption(Typ)(mW): 45; Resolution(Bits): 12; Settling Time(us): 8; SubFamily: Precision DAC (=<10MSPS); DatasheetVersion: SBAS119; PackageVersion: 4040000-2/G, 01/2011; PackageReference: DW16; PackageDescription: 16-Pin Plastic Small Outline, Body 10.30 x 7.50 mm, Pitch 1.27 mm; Supplier 1: Digi-Key; Supplier Part Number 1: DAC7714UB-ND; Supplier 2: Farnell; Supplier Part Number 2: 1391146; Supplier 3: Newark; Supplier Part Number 3: 04M4508; Supplier 4: Mouser; Supplier Part Number 4: 595-DAC7714UB; Eco-Plan: Green (RoHS & no Sb/Br); INL(Max)(+/-LSB): 1; Mounting Technology: Surface Mount; Code_JEDEC: MS-013; ComponentLink1Description: Manufacturer URL; ComponentLink1URL: http://www.ti.com/; ComponentLink2Description: Datasheet; ComponentLink2URL: http://www.ti.com/general/docs/lit/getliterature.tsp?genericPartNumber=DAC7714&fileType=pdf; ComponentLink3Description: Package Specification; ComponentLink3URL: http://www.ti.com/litv/pdf/msoi003g
footprint TI-DW16_N (SOIC, 16-Leads, Body 10.3x7.5mm, Pitch 1.27mm, IPC Medium Density)
footprint TI-DW16_L (SOIC, 16-Leads, Body 10.3x7.5mm, Pitch 1.27mm, IPC High Density)
footprint TI-DW16_M (SOIC, 16-Leads, Body 10.3x7.5mm, Pitch 1.27mm, IPC Low Density)
pins: 1 VCC (power) "Positive Analog Supply Voltage, +15V nominal.", 2 VOUTD (out) "DAC D Voltage Output", 3 VOUTC (out) "DAC C Voltage Output", 4 VREFL (in) "Reference Input Voltage Low. Sets minimum output voltage for all DACs.", 5 VREFH (in) "Reference Input Voltage High. Sets maximum output voltage for all DACs.", 6 VOUTB (out) "DAC B Voltage Output", 7 VOUTA (out) "DAC A Voltage Output", 8 VSS (power) "Negative Analog Supply Voltage, 0V or -15V nominal.", 9 GND (power) "Ground", 10 SDI (in) "Serial Data Input", 11 CLK (in) "Serial Data Clock", 12 ~{CS} (in) "Chip Select Input", 13 NIC "Not Internally Connected", 14 ~{LOADDACS} (in) "The selected DAC register becomes transparent when L\O\A\D\D\A\C\S\ is LOW. It is in the latched state when L\O\A\D\D\A\C\S\ is HIGH.", 15 ~{RESET} (in) "Asynchronous Reset Input. Sets DAC and input registers to either zero-scale (000H) or mid-scale (800H) when LOW. RESETSEL determines which code is active.", 16 RESETSEL (in) "When LOW, a LOW on R\E\S\E\T\ will cause the DAC and input registers to be set to code 000H. When RESETSEL is HIGH, a LOW on R\E\S\E\T\ will set the registers to code 800H."

## DAC7714UB/1K
designator U?
Quad, Serial Input, 12-Bit, Voltage Output DAC, -40 to 85 degC, 16-pin SOIC (DW16), Green (RoHS & no Sb/Br); Manufacturer: Texas Instruments; PartNumber: DAC7714UB/1K; DAC Channels: 4; DNL(Max)(+/-LSB): 1; Interface: Serial SPI; Power Consumption(Typ)(mW): 45; Resolution(Bits): 12; Settling Time(us): 8; SubFamily: Precision DAC (=<10MSPS); DatasheetVersion: SBAS119; PackageVersion: 4040000-2/G, 01/2011; PackageReference: DW16; PackageDescription: 16-Pin Plastic Small Outline, Body 10.30 x 7.50 mm, Pitch 1.27 mm; Supplier 1: Digi-Key; Supplier Part Number 1: DAC7714UB/1K-ND; Supplier 2: Mouser; Supplier Part Number 2: 595-DAC7714UB/1K; Eco-Plan: Green (RoHS & no Sb/Br); INL(Max)(+/-LSB): 1; Mounting Technology: Surface Mount; Code_JEDEC: MS-013; ComponentLink1Description: Manufacturer URL; ComponentLink1URL: http://www.ti.com/; ComponentLink2Description: Datasheet; ComponentLink2URL: http://www.ti.com/general/docs/lit/getliterature.tsp?genericPartNumber=DAC7714&fileType=pdf; ComponentLink3Description: Package Specification; ComponentLink3URL: http://www.ti.com/litv/pdf/msoi003g
footprint TI-DW16_N (SOIC, 16-Leads, Body 10.3x7.5mm, Pitch 1.27mm, IPC Medium Density)
footprint TI-DW16_L (SOIC, 16-Leads, Body 10.3x7.5mm, Pitch 1.27mm, IPC High Density)
footprint TI-DW16_M (SOIC, 16-Leads, Body 10.3x7.5mm, Pitch 1.27mm, IPC Low Density)
pins: 1 VCC (power) "Positive Analog Supply Voltage, +15V nominal.", 2 VOUTD (out) "DAC D Voltage Output", 3 VOUTC (out) "DAC C Voltage Output", 4 VREFL (in) "Reference Input Voltage Low. Sets minimum output voltage for all DACs.", 5 VREFH (in) "Reference Input Voltage High. Sets maximum output voltage for all DACs.", 6 VOUTB (out) "DAC B Voltage Output", 7 VOUTA (out) "DAC A Voltage Output", 8 VSS (power) "Negative Analog Supply Voltage, 0V or -15V nominal.", 9 GND (power) "Ground", 10 SDI (in) "Serial Data Input", 11 CLK (in) "Serial Data Clock", 12 ~{CS} (in) "Chip Select Input", 13 NIC "Not Internally Connected", 14 ~{LOADDACS} (in) "The selected DAC register becomes transparent when L\O\A\D\D\A\C\S\ is LOW. It is in the latched state when L\O\A\D\D\A\C\S\ is HIGH.", 15 ~{RESET} (in) "Asynchronous Reset Input. Sets DAC and input registers to either zero-scale (000H) or mid-scale (800H) when LOW. RESETSEL determines which code is active.", 16 RESETSEL (in) "When LOW, a LOW on R\E\S\E\T\ will cause the DAC and input registers to be set to code 000H. When RESETSEL is HIGH, a LOW on R\E\S\E\T\ will set the registers to code 800H."

## DAC7714UB/1KG4
designator U?
Quad, Serial Input, 12-Bit, Voltage Output DAC, -40 to 85 degC, 16-pin SOIC (DW16), Green (RoHS & no Sb/Br); Manufacturer: Texas Instruments; PartNumber: DAC7714UB/1KG4; DAC Channels: 4; DNL(Max)(+/-LSB): 1; Interface: Serial SPI; Power Consumption(Typ)(mW): 45; Resolution(Bits): 12; Settling Time(us): 8; SubFamily: Precision DAC (=<10MSPS); DatasheetVersion: SBAS119; PackageVersion: 4040000-2/G, 01/2011; PackageReference: DW16; PackageDescription: 16-Pin Plastic Small Outline, Body 10.30 x 7.50 mm, Pitch 1.27 mm; Supplier 1: Digi-Key; Supplier Part Number 1: DAC7714UB/1KG4-ND; Supplier 2: Mouser; Supplier Part Number 2: 595-DAC7714UB/1KG4; Eco-Plan: Green (RoHS & no Sb/Br); INL(Max)(+/-LSB): 1; Mounting Technology: Surface Mount; Code_JEDEC: MS-013; ComponentLink1Description: Manufacturer URL; ComponentLink1URL: http://www.ti.com/; ComponentLink2Description: Datasheet; ComponentLink2URL: http://www.ti.com/general/docs/lit/getliterature.tsp?genericPartNumber=DAC7714&fileType=pdf; ComponentLink3Description: Package Specification; ComponentLink3URL: http://www.ti.com/litv/pdf/msoi003g
footprint TI-DW16_N (SOIC, 16-Leads, Body 10.3x7.5mm, Pitch 1.27mm, IPC Medium Density)
footprint TI-DW16_L (SOIC, 16-Leads, Body 10.3x7.5mm, Pitch 1.27mm, IPC High Density)
footprint TI-DW16_M (SOIC, 16-Leads, Body 10.3x7.5mm, Pitch 1.27mm, IPC Low Density)
pins: 1 VCC (power) "Positive Analog Supply Voltage, +15V nominal.", 2 VOUTD (out) "DAC D Voltage Output", 3 VOUTC (out) "DAC C Voltage Output", 4 VREFL (in) "Reference Input Voltage Low. Sets minimum output voltage for all DACs.", 5 VREFH (in) "Reference Input Voltage High. Sets maximum output voltage for all DACs.", 6 VOUTB (out) "DAC B Voltage Output", 7 VOUTA (out) "DAC A Voltage Output", 8 VSS (power) "Negative Analog Supply Voltage, 0V or -15V nominal.", 9 GND (power) "Ground", 10 SDI (in) "Serial Data Input", 11 CLK (in) "Serial Data Clock", 12 ~{CS} (in) "Chip Select Input", 13 NIC "Not Internally Connected", 14 ~{LOADDACS} (in) "The selected DAC register becomes transparent when L\O\A\D\D\A\C\S\ is LOW. It is in the latched state when L\O\A\D\D\A\C\S\ is HIGH.", 15 ~{RESET} (in) "Asynchronous Reset Input. Sets DAC and input registers to either zero-scale (000H) or mid-scale (800H) when LOW. RESETSEL determines which code is active.", 16 RESETSEL (in) "When LOW, a LOW on R\E\S\E\T\ will cause the DAC and input registers to be set to code 000H. When RESETSEL is HIGH, a LOW on R\E\S\E\T\ will set the registers to code 800H."

## DAC7714UBG4
designator U?
Quad, Serial Input, 12-Bit, Voltage Output DAC, -40 to 85 degC, 16-pin SOIC (DW16), Green (RoHS & no Sb/Br); Manufacturer: Texas Instruments; PartNumber: DAC7714UBG4; DAC Channels: 4; DNL(Max)(+/-LSB): 1; Interface: Serial SPI; Power Consumption(Typ)(mW): 45; Resolution(Bits): 12; Settling Time(us): 8; SubFamily: Precision DAC (=<10MSPS); DatasheetVersion: SBAS119; PackageVersion: 4040000-2/G, 01/2011; PackageReference: DW16; PackageDescription: 16-Pin Plastic Small Outline, Body 10.30 x 7.50 mm, Pitch 1.27 mm; Supplier 1: Digi-Key; Supplier Part Number 1: DAC7714UBG4-ND; Supplier 2: Farnell; Supplier Part Number 2: 1234784; Supplier 3: Newark; Supplier Part Number 3: 12M9657; Supplier 4: Mouser; Supplier Part Number 4: 595-DAC7714UBG4; Eco-Plan: Green (RoHS & no Sb/Br); INL(Max)(+/-LSB): 1; Mounting Technology: Surface Mount; Code_JEDEC: MS-013; ComponentLink1Description: Manufacturer URL; ComponentLink1URL: http://www.ti.com/; ComponentLink2Description: Datasheet; ComponentLink2URL: http://www.ti.com/general/docs/lit/getliterature.tsp?genericPartNumber=DAC7714&fileType=pdf; ComponentLink3Description: Package Specification; ComponentLink3URL: http://www.ti.com/litv/pdf/msoi003g
footprint TI-DW16_N (SOIC, 16-Leads, Body 10.3x7.5mm, Pitch 1.27mm, IPC Medium Density)
footprint TI-DW16_L (SOIC, 16-Leads, Body 10.3x7.5mm, Pitch 1.27mm, IPC High Density)
footprint TI-DW16_M (SOIC, 16-Leads, Body 10.3x7.5mm, Pitch 1.27mm, IPC Low Density)
pins: 1 VCC (power) "Positive Analog Supply Voltage, +15V nominal.", 2 VOUTD (out) "DAC D Voltage Output", 3 VOUTC (out) "DAC C Voltage Output", 4 VREFL (in) "Reference Input Voltage Low. Sets minimum output voltage for all DACs.", 5 VREFH (in) "Reference Input Voltage High. Sets maximum output voltage for all DACs.", 6 VOUTB (out) "DAC B Voltage Output", 7 VOUTA (out) "DAC A Voltage Output", 8 VSS (power) "Negative Analog Supply Voltage, 0V or -15V nominal.", 9 GND (power) "Ground", 10 SDI (in) "Serial Data Input", 11 CLK (in) "Serial Data Clock", 12 ~{CS} (in) "Chip Select Input", 13 NIC "Not Internally Connected", 14 ~{LOADDACS} (in) "The selected DAC register becomes transparent when L\O\A\D\D\A\C\S\ is LOW. It is in the latched state when L\O\A\D\D\A\C\S\ is HIGH.", 15 ~{RESET} (in) "Asynchronous Reset Input. Sets DAC and input registers to either zero-scale (000H) or mid-scale (800H) when LOW. RESETSEL determines which code is active.", 16 RESETSEL (in) "When LOW, a LOW on R\E\S\E\T\ will cause the DAC and input registers to be set to code 000H. When RESETSEL is HIGH, a LOW on R\E\S\E\T\ will set the registers to code 800H."

## DAC7714UG4
designator U?
Quad, Serial Input, 12-Bit, Voltage Output DAC, -40 to 85 degC, 16-pin SOIC (DW16), Green (RoHS & no Sb/Br); Manufacturer: Texas Instruments; PartNumber: DAC7714UG4; DAC Channels: 4; DNL(Max)(+/-LSB): 1; INL(Max)(+/-LSB): 2; Interface: Serial SPI; Power Consumption(Typ)(mW): 45; Resolution(Bits): 12; Settling Time(us): 8; SubFamily: Precision DAC (=<10MSPS); DatasheetVersion: SBAS119; PackageVersion: 4040000-2/G, 01/2011; PackageReference: DW16; PackageDescription: 16-Pin Plastic Small Outline, Body 10.30 x 7.50 mm, Pitch 1.27 mm; Supplier 1: Digi-Key; Supplier Part Number 1: DAC7714UG4-ND; Supplier 2: Newark; Supplier Part Number 2: 88K3820; Supplier 3: Mouser; Supplier Part Number 3: 595-DAC7714UG4; Eco-Plan: Green (RoHS & no Sb/Br); Mounting Technology: Surface Mount; Code_JEDEC: MS-013; ComponentLink1Description: Manufacturer URL; ComponentLink1URL: http://www.ti.com/; ComponentLink2Description: Datasheet; ComponentLink2URL: http://www.ti.com/general/docs/lit/getliterature.tsp?genericPartNumber=DAC7714&fileType=pdf; ComponentLink3Description: Package Specification; ComponentLink3URL: http://www.ti.com/litv/pdf/msoi003g
footprint TI-DW16_N (SOIC, 16-Leads, Body 10.3x7.5mm, Pitch 1.27mm, IPC Medium Density)
footprint TI-DW16_L (SOIC, 16-Leads, Body 10.3x7.5mm, Pitch 1.27mm, IPC High Density)
footprint TI-DW16_M (SOIC, 16-Leads, Body 10.3x7.5mm, Pitch 1.27mm, IPC Low Density)
pins: 1 VCC (power) "Positive Analog Supply Voltage, +15V nominal.", 2 VOUTD (out) "DAC D Voltage Output", 3 VOUTC (out) "DAC C Voltage Output", 4 VREFL (in) "Reference Input Voltage Low. Sets minimum output voltage for all DACs.", 5 VREFH (in) "Reference Input Voltage High. Sets maximum output voltage for all DACs.", 6 VOUTB (out) "DAC B Voltage Output", 7 VOUTA (out) "DAC A Voltage Output", 8 VSS (power) "Negative Analog Supply Voltage, 0V or -15V nominal.", 9 GND (power) "Ground", 10 SDI (in) "Serial Data Input", 11 CLK (in) "Serial Data Clock", 12 ~{CS} (in) "Chip Select Input", 13 NIC "Not Internally Connected", 14 ~{LOADDACS} (in) "The selected DAC register becomes transparent when L\O\A\D\D\A\C\S\ is LOW. It is in the latched state when L\O\A\D\D\A\C\S\ is HIGH.", 15 ~{RESET} (in) "Asynchronous Reset Input. Sets DAC and input registers to either zero-scale (000H) or mid-scale (800H) when LOW. RESETSEL determines which code is active.", 16 RESETSEL (in) "When LOW, a LOW on R\E\S\E\T\ will cause the DAC and input registers to be set to code 000H. When RESETSEL is HIGH, a LOW on R\E\S\E\T\ will set the registers to code 800H."